# EAGLE library part FT232R (library ic)
USB Interface IC USB to Serial UART Enhanced IC
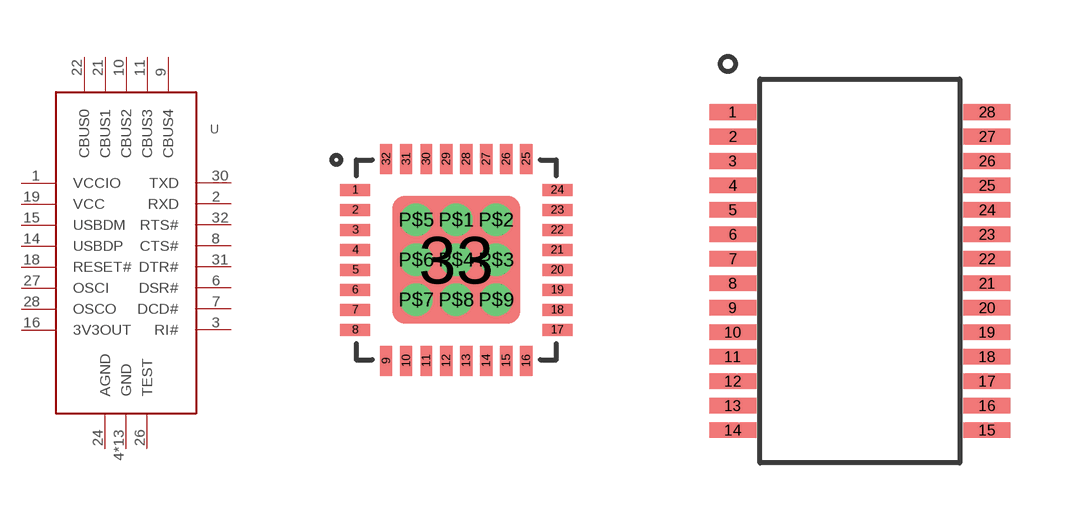
[diagram p6: symbol with the pads of QFN32; footprints QFN32, SSOP28]

Designator prefix U

## FT232RQFN  [QFN32]
1  VCCIO
2  RXD
3  RI#
4  GND
6  DSR#
7  DCD#
8  CTS#
9  CBUS4
10  CBUS2
11  CBUS3
14  USBDP
15  USBDM
16  3V3OUT
17  GND
18  RESET#
19  VCC
20  GND
21  CBUS1
22  CBUS0
24  AGND
26  TEST
27  OSCI
28  OSCO
30  TXD
31  DTR#
32  RTS#
33  GND
P$1  GND
P$2  GND
P$3  GND
P$4  GND
P$5  GND
P$6  GND
P$7  GND
P$8  GND
P$9  GND

## FT232RSSOP28  [SSOP28]
1  TXD
2  DTR#
3  RTS#
4  VCCIO
5  RXD
6  RI#
7  GND
9  DSR#
10  DCD#
11  CTS#
12  CBUS4
13  CBUS2
14  CBUS3
15  USBDP
16  USBDM
17  3V3OUT
18  GND
19  RESET#
20  VCC
21  GND
22  CBUS1
23  CBUS0
25  AGND
26  TEST
27  OSCI
28  OSCO

## Footprint QFN32 (pad centres in mm)
smd 0.75 x 0.3: 1 -2.525,1.75; 2 -2.525,1.25; 3 -2.525,0.75; 4 -2.525,0.25; 5 -2.525,-0.25; 6 -2.525,-0.75; 7 -2.525,-1.25; 8 -2.525,-1.75; 17 2.525,-1.75; 18 2.525,-1.25; 19 2.525,-0.75; 20 2.525,-0.25; 21 2.525,0.25; 22 2.525,0.75; 23 2.525,1.25; 24 2.525,1.75
smd 0.3 x 0.75: 9 -1.75,-2.525; 10 -1.25,-2.525; 11 -0.75,-2.525; 12 -0.25,-2.525; 13 0.25,-2.525; 14 0.75,-2.525; 15 1.25,-2.525; 16 1.75,-2.525; 25 1.75,2.525; 26 1.25,2.525; 27 0.75,2.525; 28 0.25,2.525; 29 -0.25,2.525; 30 -0.75,2.525; 31 -1.25,2.525; 32 -1.75,2.525
smd 3.2 x 3.2: 33 0,0
drill 0.3 pad 0.406: P$1 0,1; P$2 1,1; P$3 1,0; P$4 0,0; P$5 -1,1; P$6 -1,0; P$7 -1,-1; P$8 0,-1; P$9 1,-1

## Footprint SSOP28 (pad centres in mm)
smd 1.25 x 0.42: 1 -3.375,4.225; 2 -3.375,3.575; 3 -3.375,2.925; 4 -3.375,2.275; 5 -3.375,1.625; 6 -3.375,0.975; 7 -3.375,0.325; 8 -3.375,-0.325; 9 -3.375,-0.975; 10 -3.375,-1.625; 11 -3.375,-2.275; 12 -3.375,-2.925; 13 -3.375,-3.575; 14 -3.375,-4.225; 15 3.375,-4.225; 16 3.375,-3.575; 17 3.375,-2.925; 18 3.375,-2.275; 19 3.375,-1.625; 20 3.375,-0.975; 21 3.375,-0.325; 22 3.375,0.325; 23 3.375,0.975; 24 3.375,1.625; 25 3.375,2.275; 26 3.375,2.925; 27 3.375,3.575; 28 3.375,4.225